# EAGLE library part WE-D-SUB_SMD90_246617113 (library Wurth_Signal & Communications_WE-D-SUB)
WE-D-SUB Filter Bent 90° SMT Characteristics Standard type filtered with 1000 pF High attenuation of more than 40 dB @ 180 MHz Low size: 6.3 mm Rated voltage: 125 VDC Rated current @ 20 ºC: 5 A Withstand voltage: 250 VRMS Insulation resistance: min. 1000 MΩ Operating temperature: –55 ºC to +125 ºC Applications Filtering of interfaces External connection to -printer -sensor -display <https://katalog.we-online.de/media/images/v2/o14706v209%20Family_240117113_240617113.jpg> Details see: https://katalog.we-online.de/en/pbs/D-SUB-FILTER-BENT90-SMD Updated by Ella Wu 2019-09-10 2019(C) Wurth Elektronik
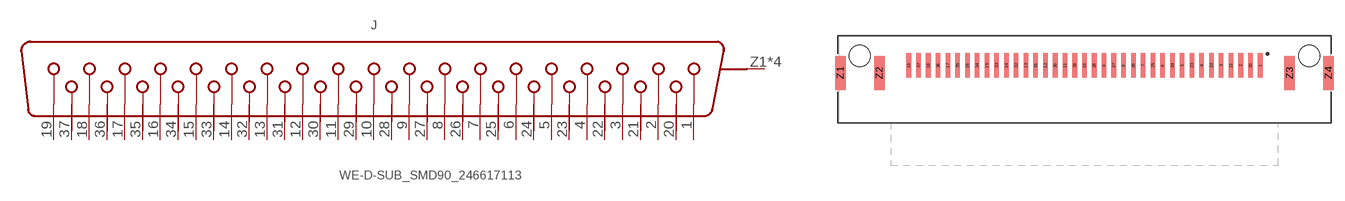
[diagram p26: symbol with the pads of WE-D-SUB_SMD90_246617113; footprint WE-D-SUB_SMD90_246617113]

Designator prefix J

## WE-D-SUB_SMD90_246617113 (DATASHEET-URL: https://katalog.we-online.de/pbs/datasheet/246617113.pdf; MOUNT: SMT; PART-NUMBER: 246617113; POLES: 37; TYPE: Female)  [WE-D-SUB_SMD90_246617113]
1  19  pas
2  18  pas
3  17  pas
4  16  pas
5  15  pas
6  14  pas
7  13  pas
8  12  pas
9  11  pas
10  10  pas
11  9  pas
12  8  pas
13  7  pas
14  6  pas
15  5  pas
16  4  pas
17  3  pas
18  2  pas
19  1  pas
20  37  pas
21  36  pas
22  35  pas
23  34  pas
24  33  pas
25  32  pas
26  31  pas
27  30  pas
28  29  pas
29  28  pas
30  27  pas
31  26  pas
32  25  pas
33  24  pas
34  23  pas
35  22  pas
36  21  pas
37  20  pas
Z1  GND  pwr
Z2  GND  pwr
Z3  GND  pwr
Z4  GND  pwr

## Footprint WE-D-SUB_SMD90_246617113 (pad centres in mm)
WE-D-SUB Filter Bent 90° SMT 37 Poles , Female
smd 0.65 x 3.5: 1 24.84,-1.35; 2 22.08,-1.35; 3 19.32,-1.35; 4 16.56,-1.35; 5 13.8,-1.35; 6 11.04,-1.35; 7 8.28,-1.35; 8 5.52,-1.35; 9 2.76,-1.35; 10 0,-1.35; 11 -2.76,-1.35; 12 -5.52,-1.35; 13 -8.28,-1.35; 14 -11.04,-1.35; 15 -13.8,-1.35; 16 -16.56,-1.35; 17 -19.32,-1.35; 18 -22.08,-1.35; 19 -24.84,-1.35; 20 23.46,-1.35; 21 20.7,-1.35; 22 17.94,-1.35; 23 15.18,-1.35; 24 12.42,-1.35; 25 9.66,-1.35; 26 6.9,-1.35; 27 4.14,-1.35; 28 1.38,-1.35; 29 -1.38,-1.35; 30 -4.14,-1.35; 31 -6.9,-1.35; 32 -9.66,-1.35; 33 -12.42,-1.35; 34 -15.18,-1.35; 35 -17.94,-1.35; 36 -20.7,-1.35; 37 -23.46,-1.35
smd 1.5 x 4.8: Z1 -34.5,-2.4; Z2 -29,-2.4; Z3 29,-2.4; Z4 34.5,-2.4
hole 3 at -31.75,0
hole 3 at 31.75,0